# EAGLE library part MCP39F5 (library Eagle_CAD_parts)
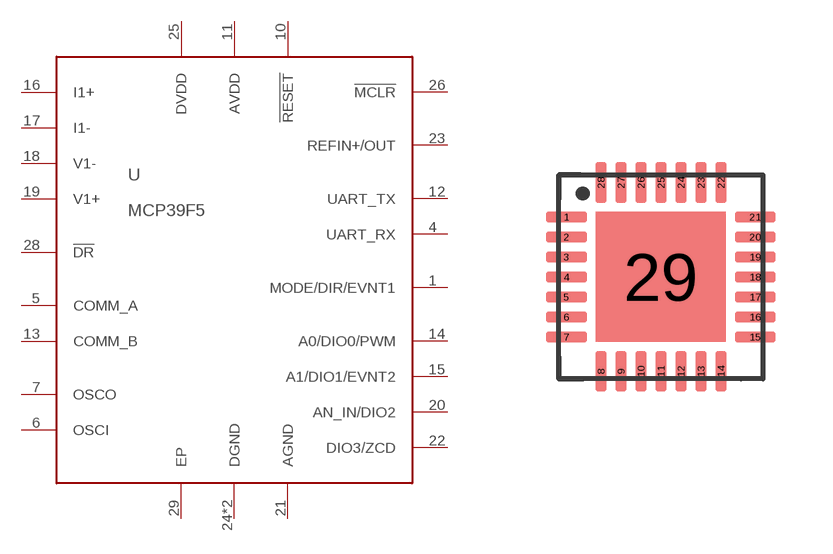
[diagram p49: symbol with the pads of 28-QFN-5X5; footprint 28-QFN-5X5]

Designator prefix U

## MCP39F501 (DIGIKEY_PART_NUMBER: MCP39F501T-E/MQCT-ND; MANUFACTURER_PART_NUMBER: MCP39F501T-E/MQ)  [28-QFN-5X5]
1  MODE/DIR/EVNT1
4  UART_RX
5  COMM_A
6  OSCI
7  OSCO
10  !RESET
11  AVDD
12  UART_TX
13  COMM_B
14  A0/DIO0/PWM
15  A1/DIO1/EVNT2
16  I1+
17  I1-
18  V1-
19  V1+
20  AN_IN/DIO2
21  AGND
22  DIO3/ZCD
23  REFIN+/OUT
24  DGND
25  DVDD
26  !MCLR
27  DGND
28  !DR
29  EP

## MCP39F511 (DIGIKEY_PART_NUMBER: MCP39F511-E/MQ-ND; MANUFACTURER_PART_NUMBER: MCP39F511-E/MQ)  [28-QFN-5X5]
Pads as for 28-QFN-5X5

## Footprint 28-QFN-5X5 (pad centres in mm)
smd 1.01 x 0.27: 1 -2.36,1.5; 2 -2.36,1; 3 -2.36,0.5; 4 -2.36,0; 5 -2.36,-0.5; 6 -2.36,-1; 7 -2.36,-1.5; 15 2.36,-1.5; 16 2.36,-1; 17 2.36,-0.5; 18 2.36,0; 19 2.36,0.5; 20 2.36,1; 21 2.36,1.5
smd 0.27 x 1.01: 8 -1.5,-2.36; 9 -1,-2.36; 10 -0.5,-2.36; 11 0,-2.36; 12 0.5,-2.36; 13 1,-2.36; 14 1.5,-2.36; 22 1.5,2.36; 23 1,2.36; 24 0.5,2.36; 25 0,2.36; 26 -0.5,2.36; 27 -1,2.36; 28 -1.5,2.36
smd 3.25 x 3.25: 29 0,0